# Altium schematic symbol library SPEAKER.SchLib: 1 symbol
Pins are listed as number, name and electrical type; pins without a type are passive.

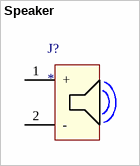
[diagram p0: symbol Speaker]

## Speaker
designator J?
pins: 1 +, 2 -